# Altium schematic symbol library ad7768_testboard.SCHLIB: 17 symbols
Pins are listed as number, name and electrical type; pins without a type are passive.

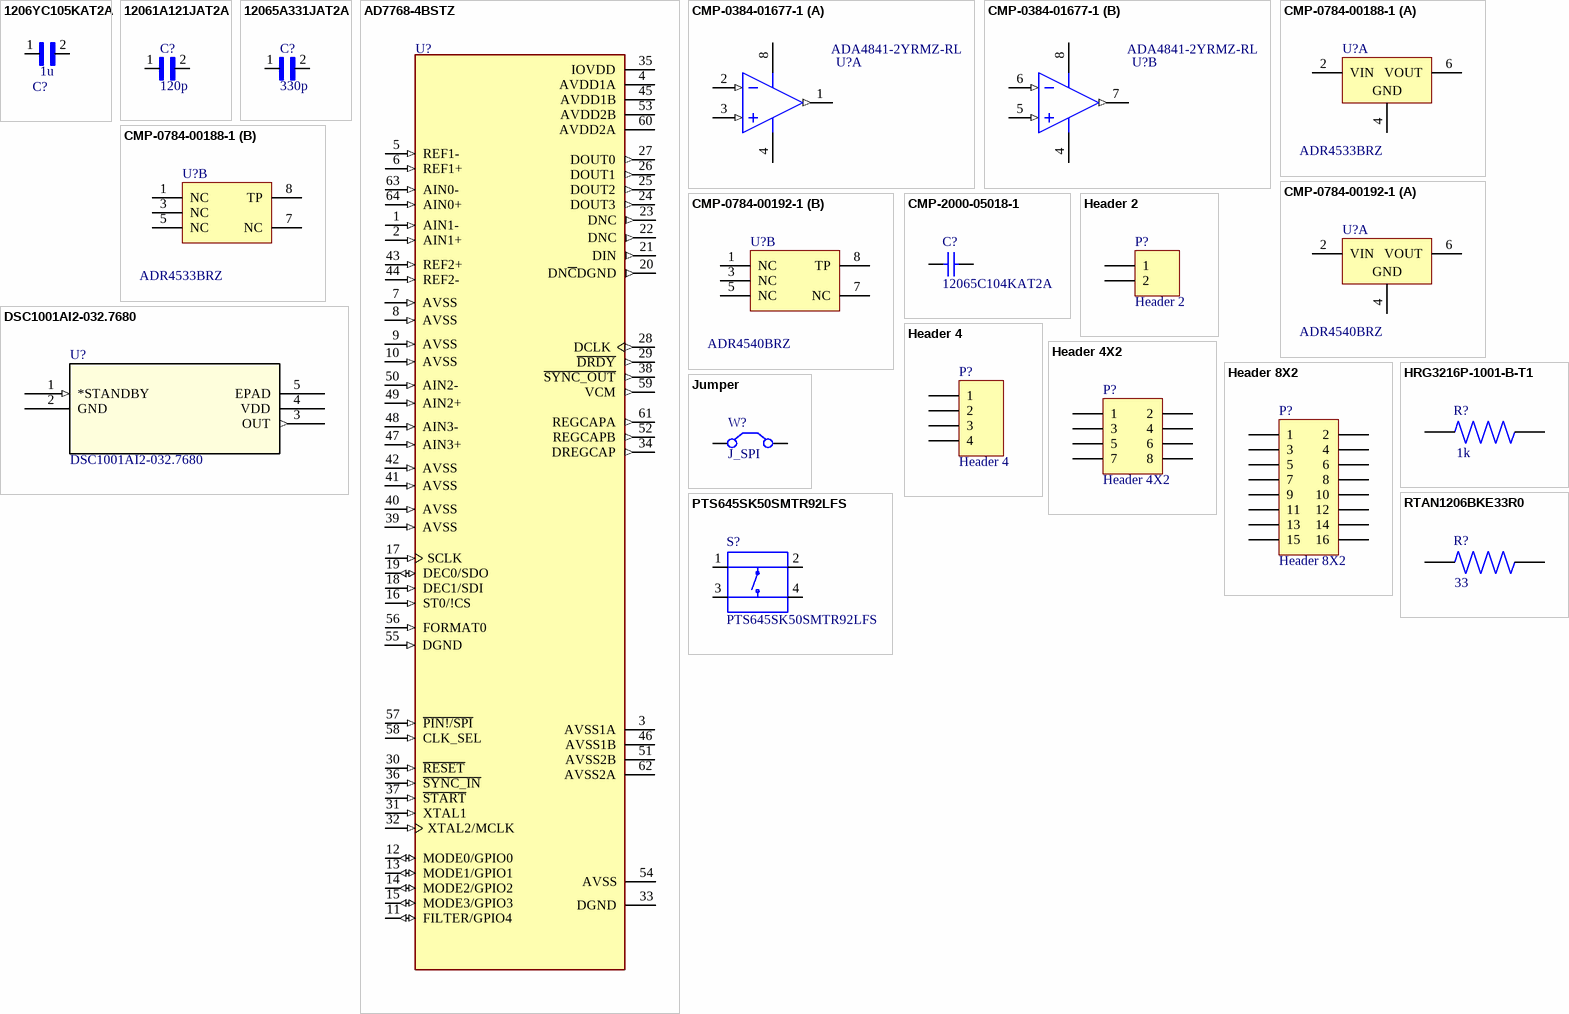
[diagram p0: symbols 1206YC105KAT2A to RTAN1206BKE33R0]

## 1206YC105KAT2A
designator C?, comment 1u
Cap Ceramic 1uF 16V X7R 10% SMD 1206 125ÂÂŽ T/R; MF: {'manufacturer': u'AVX'}; MP: 1206YC105KAT2A; Value: *; Package: None; Price: None; Availability: Unavailable
footprint CAPC3216X127N
pins: 1, 2

## 12061A121JAT2A
designator C?, comment 120p
CERAMIC CAPACITOR 120PF 100V, C0G, 5%, 1206; MF: {'manufacturer': u'AVX'}; MP: 12061A121JAT2A; Value: *; Package: None; Price: None; Availability: Unavailable
footprint CAPC3216X94N
pins: 1, 2

## 12065A331JAT2A
designator C?, comment 330p
Ceramic Multilayer Capacitor; Capacitor Type:General Purpose; Capacitance:330pF; Capacitance Tolerance:Â± 5%; Voltage Rating:50VDC; Capacitor Dielectric Type:Multilayer Ceramic; Package/Case:1206; Termination Type:SMD ;RoHS Compliant: Yes; MF: {'manufacturer': u'AVX'}; MP: 12065A331JAT2A; Value: *; Package: None; Price: None; Availability: Unavailable
footprint CAPC3216X94N
pins: 1, 2

## AD7768-4BSTZ
designator U?
24 Bit Analog to Digital Converter 4 Input 4 Sigma-Delta 64-LQFP _10x10_; MF: Analog Devices; MP: AD7768-4BSTZ; Digi-Key_Purchase_URL: https://www.digikey.com/product-detail/en/analog-devices-inc/AD7768-4BSTZ/AD7768-4BSTZ-ND/6072260?utm_source=snapeda&utm_medium=aggregator&utm_campaign=symbol; Package: LQFP -64 Analog Devices; SnapEDA_Link: https://www.snapeda.com/parts/AD7768-4BSTZ/Analog%20Devices%20Inc./view-part/501603/?ref=snap; Value: *; Digi-Key_Part_Number: AD7768-4BSTZ-ND
footprint QFP50P1200X1200X160-64N
pins: 1 AIN1- (in), 2 AIN1+ (in), 3 AVSS1A (power), 4 AVDD1A (power), 5 REF1- (in), 6 REF1+ (in), 7 AVSS (in), 8 AVSS (in), 9 AVSS (in), 10 AVSS (in), 11 FILTER/GPIO4 (io), 12 MODE0/GPIO0 (io), 13 MODE1/GPIO1 (io), 14 MODE2/GPIO2 (io), 15 MODE3/GPIO3 (io), 16 ST0/!CS (in), 17 SCLK (in), 18 DEC1/SDI (in), 19 DEC0/SDO (io), 20 DN~{C}DGND (out), 21 DIN (out), 22 DNC (out), 23 DNC (out), 24 DOUT3 (out), 25 DOUT2 (out), 26 DOUT1 (out), 27 DOUT0 (out), 28 DCLK (out), 29 ~{DRDY} (out), 30 ~{RESET} (in), 31 XTAL1 (in), 32 XTAL2/MCLK (in), 33 DGND (power), 34 DREGCAP (out), 35 IOVDD (power), 36 ~{SYNC_IN} (in), 37 ~{START} (in), 38 ~{SYNC_OUT} (out), 39 AVSS (in), 40 AVSS (in), 41 AVSS (in), 42 AVSS (in), 43 REF2+ (in), 44 REF2- (in), 45 AVDD1B (power), 46 AVSS1B (power), 47 AIN3+ (in), 48 AIN3- (in), 49 AIN2+ (in), 50 AIN2- (in), 51 AVSS2B (power), 52 REGCAPB (out), 53 AVDD2B (power), 54 AVSS (power), 55 DGND (in), 56 FORMAT0 (in), 57 ~{PIN!/SPI} (in), 58 CLK_SEL (in), 59 VCM (out), 60 AVDD2A (power), 61 REGCAPA (out), 62 AVSS2A (power), 63 AIN0- (in), 64 AIN0+ (in)

## CMP-0384-01677-1
designator U?, comment ADA4841-2YRMZ-RL
Double Channel Low Wide Band Noise Operational Amplifier, 80 MHz BW, 13 V/us SR, Industrial, 8-pin SOP (RM-8), Reel; Manufacturer: Analog Devices; Slew Rate: 13V/us; Iq/Amp: 1.5mA; Amplifiers Per Package: 2; Small Signal Bandwidth: 80MHz; V Span Min: 2.7V; V Span Max: 12V; Input Offset Voltage: 40uV; Input Bias Current: 3uA; ComponentLink3URL: http://www.analog.com/static/imported-files/packages/PKG_PDF/MSOP%28RM%29/RM_8.pdf; PartNumber: ADA4841-2YRMZ-RL; Mounting Technology: Surface Mount; DatasheetVersion: Rev. E; PackageDescription: 8-Pin Mini Small Outline Package, Body 3 x 3 mm, Pitch 0.65 mm; PackageReference: RM-8; ComponentLink2URL: http://www.analog.com/static/imported-files/data_sheets/ADA4841-1_4841-2.pdf; ComponentLink1Description: Manufacturer URL; ComponentLink2Description: Datasheet; Generic Part Number: ADA4841-2; ComponentLink1URL: http://www.analog.com/en/index.html; Code_JEDEC: MO-187-AA; ComponentLink3Description: Package Specification; Manufacturer Part Number: ADA4841-2YRMZ-RL
footprint ADI-RM-8_M (SOP, 8-Leads, Body 3x3mm, Pitch 0.65mm, IPC Low Density)
footprint ADI-RM-8_L (SOP, 8-Leads, Body 3x3mm, Pitch 0.65mm, IPC High Density)
footprint ADI-RM-8_N (SOP, 8-Leads, Body 3x3mm, Pitch 0.65mm, IPC Medium Density)
pins on every part: 4 -VS (power), 8 +VS (power)
part A pins: 1 OUT 1 (out), 2 -IN 1 (in), 3 +IN 1 (in)
part B pins: 5 +IN 2 (in), 6 -IN 2 (in), 7 OUT 2 (out)

## CMP-0784-00188-1
designator U?, comment ADR4533BRZ
Ultralow Noise, High Accuracy Voltage Reference, 3.3 V Output, 3 to 15 V Supply, Industrial, 8-pin SOIC (R-8), Tube; Manufacturer: Analog Devices; Min V Supply (V): 3; Ref Out TC (ppm/C): 2; Max V Supply (V): 15; Vout: 3.3V; ComponentLink1URL: http://www.analog.com/en/index.html; ComponentLink3Description: Package Specification; Operating Temp Range: -40 to 125 degC; PartNumber: ADR4533BRZ; DatasheetVersion: Rev. 0; ComponentLink3URL: http://www.analog.com/static/imported-files/packages/PKG_PDF/SOIC_Narrow%20(R)/R_8.pdf; Packing: Tube; ComponentLink2URL: http://www.analog.com/static/imported-files/data_sheets/ADR4520_4525_4530_4533_4540_4550.pdf; Code_JEDEC: MS-012-AA; PackageVersion: 060506-A, 06/2006; ComponentLink4Description: URL Link1; ComponentLink1Description: Manufacturer URL; PackageReference: R-8; ComponentLink4URL: Product URL:http://www.analog.com/en/special-linear-functions/voltage-references/adr4533/products/product.html; PackageDescription: 8-Pin Standard Small Outline Package, Body 4.9 x 3.9 mm, Pitch 1.27 mm; ComponentLink2Description: Datasheet; Mounting Technology: Surface Mount; Manufacturer Part Number: ADR4533BRZ
footprint ADI-R-8_L (SOIC, 8-Leads, Body 4.9x3.9mm, Pitch 1.27mm, IPC High Density)
footprint ADI-R-8_N (SOIC, 8-Leads, Body 4.9x3.9mm, Pitch 1.27mm, IPC Medium Density)
footprint ADI-R-8_M (SOIC, 8-Leads, Body 4.9x3.9mm, Pitch 1.27mm, IPC Low Density)
part A pins: 2 VIN (power) "Input Voltage Connection.", 4 GND (power) "Ground.", 6 VOUT (power) "Output Voltage."
part B pins: 1 NC "No Connect. This pin is not connected internally.", 3 NC "No Connect. This pin is not connected internally.", 5 NC "No Connect. This pin is not connected internally.", 7 NC "No Connect. This pin is not connected internally.", 8 TP "Test Pin. Do not connect."

## CMP-0784-00192-1
designator U?, comment ADR4540BRZ
Ultralow Noise, High Accuracy Voltage Reference, 4.096 V Output, 3 to 15 V Supply, Industrial, 8-pin SOIC (R-8), Tube; Manufacturer: Analog Devices; Max V Supply (V): 15; Min V Supply (V): 3; Vout: 4.096V; Ref Out TC (ppm/C): 2; ComponentLink4URL: Product URL:http://www.analog.com/en/special-linear-functions/voltage-references/adr4540/products/product.html; Mounting Technology: Surface Mount; ComponentLink1Description: Manufacturer URL; PackageDescription: 8-Pin Standard Small Outline Package, Body 4.9 x 3.9 mm, Pitch 1.27 mm; ComponentLink2URL: http://www.analog.com/static/imported-files/data_sheets/ADR4520_4525_4530_4533_4540_4550.pdf; ComponentLink1URL: http://www.analog.com/en/index.html; DatasheetVersion: Rev. 0; ComponentLink4Description: URL Link1; Operating Temp Range: -40 to 125 degC; PartNumber: ADR4540BRZ; ComponentLink2Description: Datasheet; ComponentLink3URL: http://www.analog.com/static/imported-files/packages/PKG_PDF/SOIC_Narrow%20(R)/R_8.pdf; ComponentLink3Description: Package Specification; PackageVersion: 060506-A, 06/2006; Packing: Tube; PackageReference: R-8; Code_JEDEC: MS-012-AA; Manufacturer Part Number: ADR4540BRZ
footprint ADI-R-8_M (SOIC, 8-Leads, Body 4.9x3.9mm, Pitch 1.27mm, IPC Low Density)
footprint ADI-R-8_L (SOIC, 8-Leads, Body 4.9x3.9mm, Pitch 1.27mm, IPC High Density)
footprint ADI-R-8_N (SOIC, 8-Leads, Body 4.9x3.9mm, Pitch 1.27mm, IPC Medium Density)
part A pins: 2 VIN (power) "Input Voltage Connection.", 4 GND (power) "Ground.", 6 VOUT (power) "Output Voltage."
part B pins: 1 NC "No Connect. This pin is not connected internally.", 3 NC "No Connect. This pin is not connected internally.", 5 NC "No Connect. This pin is not connected internally.", 7 NC "No Connect. This pin is not connected internally.", 8 TP "Test Pin. Do not connect."

## CMP-2000-05018-1
designator C?, comment 12065C104KAT2A
Chip Capacitor, Ceramic, 100 nF, 10%, 50 V, 1206, RoHS, Tape and Reel; Manufacturer: AVX; Manufacturer: Kyocera AVX; Rated Voltage: 50V; Dielectric: X7R; Capacitance: 100nF; Datasheet URL: http://www.mouser.com/ds/2/40/cauto-360.pdf; Manufacturer URL: http://www.avx.com/; Datasheet Version: Sep-14; Tolerance (%): ±10%; Case Size/Dimension: 1206; Manufacturer Part Number: 12065C104KAT2A
footprint CAPC3216X94X50ML20T25 (Chip Capacitor, 2-Leads, Body 3.20x1.60mm, IPC Low Density)
footprint CAPC3216X94X50NL20T25 (Chip Capacitor, 2-Leads, Body 3.20x1.60mm, IPC Medium Density)
footprint CAPC3216X94X50LL20T25 (Chip Capacitor, 2-Leads, Body 3.20x1.60mm, IPC High Density)
pins: 1, 2

## DSC1001AI2-032.7680
designator U?
No Description Available; Mfr_Name: Microchip; Copyright: Copyright (C) 2021 Ultra Librarian. All rights reserved.; Manufacturer_Part_Number: DSC1001AI2-032.7680; Digi-Key_Part_Number_1: DSC1001AI2-032.7680-ND; RefDes: RefDes; Type: DEV
footprint DFN4_7X5_MCH
pins: 1 *STANDBY (in), 2 GND, 3 OUT (out), 4 VDD (power), 5 EPAD

## Header 2
designator P?
Header, 2-Pin; LatestRevisionDate: 17-Jul-2002; LatestRevisionNote: Re-released for DXP Platform.; Publisher: Altium Limited
footprint HDR1X2 (Connector; Header; 2 Position)
signal-integrity model Connector
pins: 1, 2

## Header 4
designator P?
Header, 4-Pin; LatestRevisionDate: 17-Jul-2002; LatestRevisionNote: Re-released for DXP Platform.; Publisher: Altium Limited
footprint HDR1X4 (Connector; Header; 4 Position)
signal-integrity model Connector
pins: 1, 2, 3, 4

## Header 4X2
designator P?
Header, 4-Pin, Dual row; LatestRevisionDate: 17-Jul-2002; LatestRevisionNote: Re-released for DXP Platform.; Publisher: Altium Limited
footprint HDR2X4 (Connector; Header; 4x2 Position)
signal-integrity model Connector
pins: 1, 2, 3, 4, 5, 6, 7, 8

## Header 8X2
designator P?
Header, 8-Pin, Dual row; LatestRevisionDate: 17-Jul-2002; LatestRevisionNote: Re-released for DXP Platform.; Publisher: Altium Limited
footprint HDR2X8 (Connector; Header; 8x2 Position)
signal-integrity model Connector
pins: 1, 2, 3, 4, 5, 6, 7, 8, 9, 10, 11, 12, 13, 14, 15, 16

## HRG3216P-1001-B-T1
designator R?, comment 1k
RES SMD 1K OHM 0.1% 1W 1206; MF: {'manufacturer': u'Susumu'}; MP: HRG3216P-1001-B-T1; Value: *; Package: None; Price: None; Availability: Unavailable
footprint RESC3216X55N
pins: 1, 2

## Jumper
designator W?, comment J_SPI
Jumper Wire; Published: 24-Mar-1999; LatestRevisionDate: 17-Jul-2002; LatestRevisionNote: Re-released for DXP Platform.; PackageReference: RAD-0.2; Publisher: Altium Limited; PackageDescription: Radial Cap, Thru-Hole; 2 Leads; 0.2 in Pin Spacing
footprint RAD-0.2 (Radial Cap, Thru-Hole; 2 Leads; 0.2 in Pin Spacing)
pins: 1 C1, 2 C2

## PTS645SK50SMTR92LFS
designator S?
Tactile Switch SPST-NO Top Actuated Surface Mount; MF: C&K; Price: None; SnapEDA_Link: https://www.snapeda.com/parts/PTS645SK50SMTR92LFS/C%26K/view-part/226517/?ref=snap; MP: PTS645SK50SMTR92LFS; Value: *; Availability: Unavailable; Package: None
footprint SW_PTS645SK50SMTR92LFS
pins: 1, 2, 3, 4

## RTAN1206BKE33R0
designator R?, comment 33
MF: {'manufacturer': u'Stackpole Electronics Inc'}; MP: RTAN1206BKE33R0; Value: *; Package: None; Price: None; Availability: Unavailable
footprint RESC3116X75N
pins: 1, 2